# EAGLE library part MPU6050 (library NaRRIK)
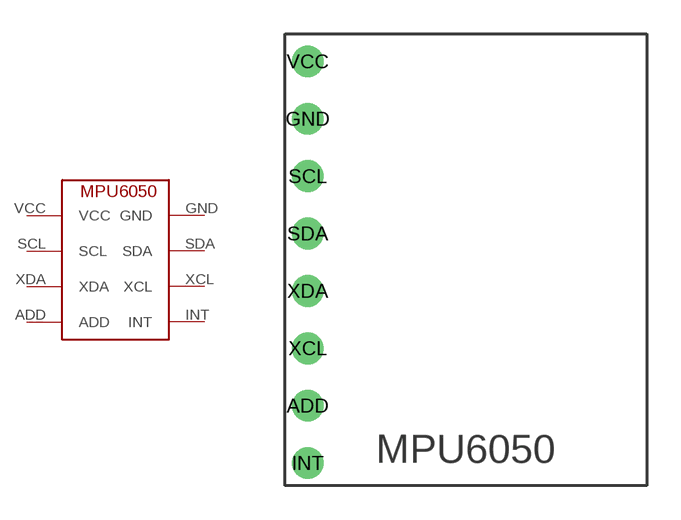
[diagram p2: symbol with the pads of MPU6050; footprint MPU6050]

Designator prefix -

## MPU6050  [MPU6050]
ADD  ADD
GND  GND
INT  INT
SCL  SCL
SDA  SDA
VCC  VCC
XCL  XCL
XDA  XDA

## Footprint MPU6050 (pad centres in mm)
drill 0.9: ADD 1,3.54; GND 1,16.24; INT 1,1; SCL 1,13.7; SDA 1,11.16; VCC 1,18.78; XCL 1,6.08; XDA 1,8.62